# EAGLE library part CONNECTORJST2X9_2MM (library MarkIIEaglelbr)
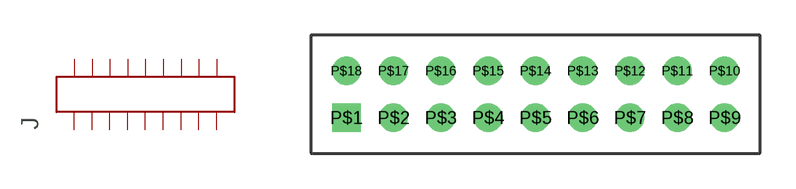
[diagram p3: symbol with the pads of CONNECTOR9X2_2MMPITCH; footprint CONNECTOR9X2_2MMPITCH]

Designator prefix J

## CONNECTORJST2X9_2MM  [CONNECTOR9X2_2MMPITCH]
P$1  P$1
P$2  P$2
P$3  P$3
P$4  P$4
P$5  P$5
P$6  P$6
P$7  P$7
P$8  P$8
P$9  P$9
P$10  P$10
P$11  P$11
P$12  P$12
P$13  P$13
P$14  P$14
P$15  P$15
P$16  P$16
P$17  P$17
P$18  P$18

## Footprint CONNECTOR9X2_2MMPITCH (pad centres in mm)
drill 0.7 square: P$1 -8,-1
drill 0.7: P$2 -6,-1; P$3 -4,-1; P$4 -2,-1; P$5 0,-1; P$6 2,-1; P$7 4,-1; P$8 6,-1; P$9 8,-1; P$10 8,1; P$11 6,1; P$12 4,1; P$13 2,1; P$14 0,1; P$15 -2,1; P$16 -4,1; P$17 -6,1; P$18 -8,1